# EAGLE library part V__VFD_11-MT-83GK (library ++Bedrahtet)
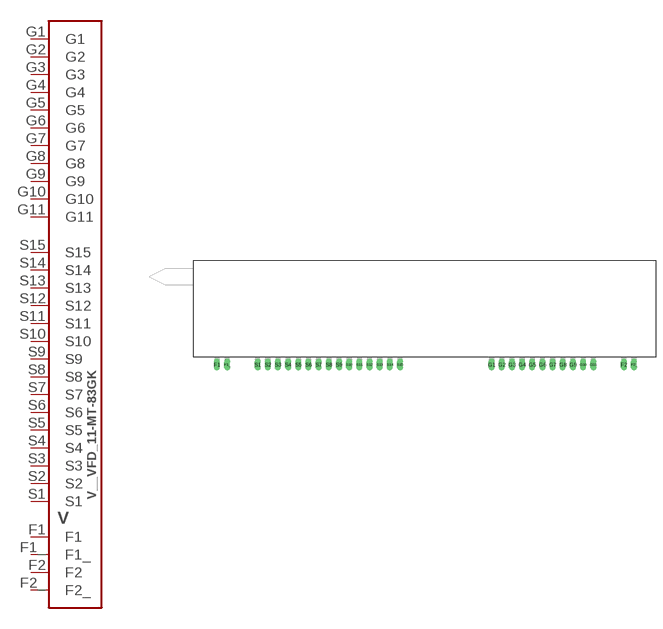
[diagram p61: symbol with the pads of VFD_11-MT-83ZK; footprint VFD_11-MT-83ZK]

Designator prefix V

## V__VFD_11-MT-83GK  [VFD_11-MT-83ZK]
F1  F1
F1_  F1_
F2  F2
F2_  F2_
G1  G1
G2  G2
G3  G3
G4  G4
G5  G5
G6  G6
G7  G7
G8  G8
G9  G9
G10  G10
G11  G11
S1  S1
S2  S2
S3  S3
S4  S4
S5  S5
S6  S6
S7  S7
S8  S8
S9  S9
S10  S10
S11  S11
S12  S12
S13  S13
S14  S14
S15  S15

## Footprint VFD_11-MT-83ZK (pad centres in mm)
drill 1 long: F1 0,0; F1_ 2.54,0; F2 101.6,0; F2_ 104.14,0; G1 68.58,0; G2 71.12,0; G3 73.66,0; G4 76.2,0; G5 78.74,0; G6 81.28,0; G7 83.82,0; G8 86.36,0; G9 88.9,0; G10 91.44,0; G11 93.98,0; S1 10.16,0; S2 12.7,0; S3 15.24,0; S4 17.78,0; S5 20.32,0; S6 22.86,0; S7 25.4,0; S8 27.94,0; S9 30.48,0; S10 33.02,0; S11 35.56,0; S12 38.1,0; S13 40.64,0; S14 43.18,0; S15 45.72,0